# Altium footprint library MICROFJ30035TSVTR.PcbLib: 1 footprints
Each footprint in its own frame and in the unit in brackets; x right, y up, seen from the top. Pads: shape width x height; smd on the part's side, far side on the other; paste and mask are expansions set on the pad; w line width, h text height; cw(c..) or ccw(c..) is an arc to the next point about the centre after c.
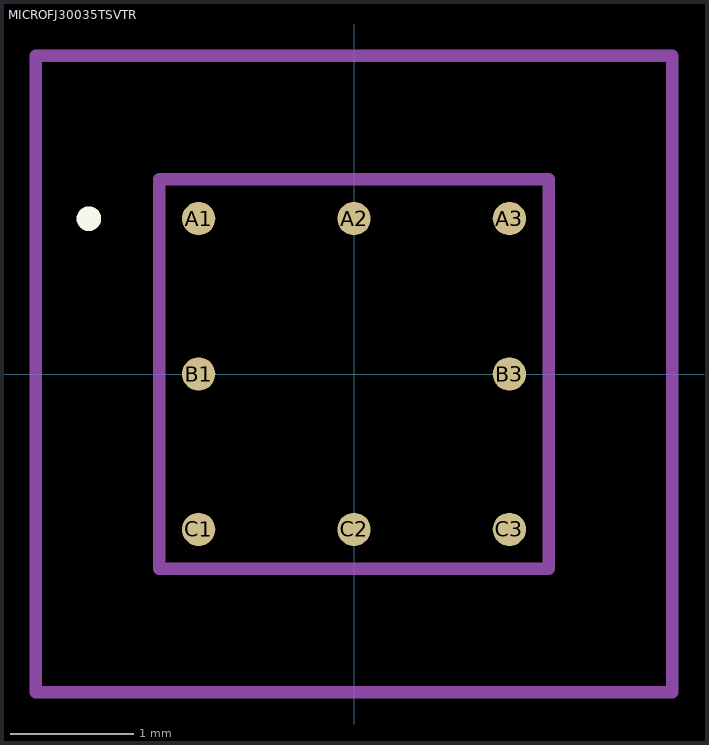
[diagram p0: the footprint, top view; thin cyan lines are the x and y axes]

## MICROFJ30035TSVTR [mm]
pads (8):
  round 0.27 smd: A1(-1.26,1.26) A2(0,1.26) A3(1.26,1.26) B1(-1.26,0) B3(1.26,0) C1(-1.26,-1.26) C2(0,-1.26) C3(1.26,-1.26)
Top Overlay:
  lines w0.1: -2.2,1.26 cw(c-2.15,1.26) -2.1,1.26 ; -2.2,1.26 -2.2,1.26 ; -2.2,1.26 ccw(c-2.15,1.26) -2.1,1.26 ; -2.1,1.26 -2.1,1.26
Mechanical 15:
  lines w0.1: -1.58,-1.58 1.58,-1.58 1.58,1.58 -1.58,1.58 -1.58,-1.58
Mechanical 20:
  lines w0.1: -2.58,-2.58 2.58,-2.58 2.58,2.58 -2.58,2.58 -2.58,-2.58